# EAGLE library part NDH2412SC (library laserscanner)
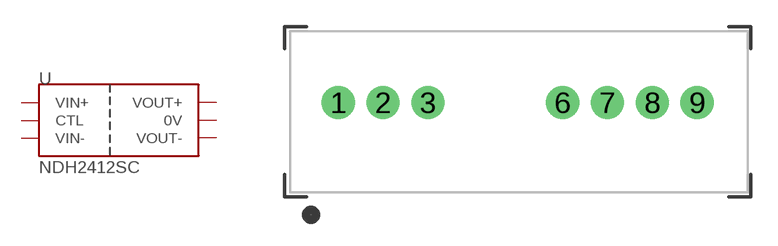
[diagram p0: symbol with the pads of NDH; footprint NDH]

Designator prefix -

## NDH2412SC  [NDH]
1  VIN-
2  VIN+
3  CTL
6  VOUT+
7  0V
9  VOUT-

## Footprint NDH (pad centres in mm)
Plated Through Hole -9 Pin No Silk Specifications: Pin count:9 Pin pitch:0.1" Example device(s): CONN_09
drill 1.016 pad 1.88: 1 0,0; 2 2.54,0; 3 5.08,0; 6 12.7,0; 7 15.24,0; 8 17.78,0; 9 20.32,0